# EAGLE library part STG5123 (library STG5123)
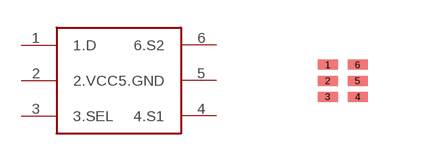
[diagram p0: symbol with the pads of DFN6L; footprint DFN6L]

Designator prefix -

## STG5123  [DFN6L]
1  1.D
2  2.VCC
3  3.SEL
4  4.S1
5  5.GND
6  6.S2

## Footprint DFN6L (pad centres in mm)
smd 0.5 x 0.25: 1 0.6,1.8; 2 0.6,1.4; 3 0.6,1; 4 1.35,1; 5 1.35,1.4; 6 1.35,1.8